# Altium schematic symbol library C-R46KF310000P1M.Schlib: 1 symbol
Pins are listed as number, name and electrical type; pins without a type are passive.

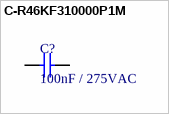
[diagram p0: symbol C-R46KF310000P1M]

## C-R46KF310000P1M
designator C?, comment 100nF / 275VAC
Film Capacitors 275vac 0.1uF 20% 275VAC '20%
pins: 1, 2